# EAGLE library part 52207-1185 (library rc13)
SOCKET FPC, SMT, 1MM, 10 WAY
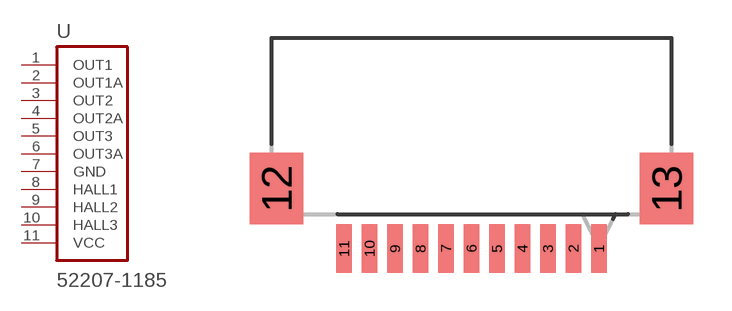
[diagram p0: symbol with the pads of MOLEX_52207-1185; footprint MOLEX_52207-1185]

Designator prefix U

## 52207-1185 (MPN: 52207-1085; OC_FARNELL: 1079938; OC_NEWARK: 58J9503; PACKAGE: SOCKET FPC, SMT, 1MM, 10 WAY; SUPPLIER: Molex)  [MOLEX_52207-1185]
1  OUT1  pas
2  OUT1A  pas
3  OUT2  pas
4  OUT2A  pas
5  OUT3  pas
6  OUT3A  pas
7  GND  pas
8  HALL1  pas
9  HALL2  pas
10  HALL3  pas
11  VCC  pas

## Footprint MOLEX_52207-1185 (pad centres in mm)
smd 0.6 x 1.9: 1 5,4.8; 2 4,4.8; 3 3,4.8; 4 2,4.8; 5 1,4.8; 6 0,4.8; 7 -1,4.8; 8 -2,4.8; 9 -3,4.8; 10 -4,4.8; 11 -5,4.8
smd 2.1 x 2.8: 12 -7.65,7.15
smd 2.108 x 2.794: 13 7.65,7.15